# Altium integrated library AD7192BRUZ.IntLib: 1 symbol
Pins are listed as number, name and electrical type; pins without a type are passive.

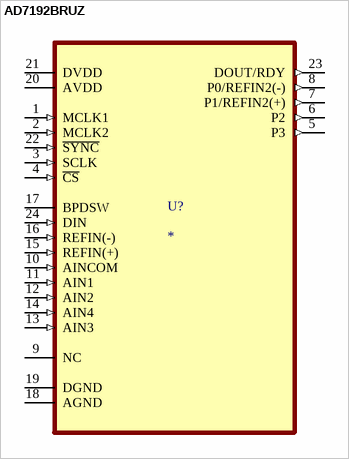
[diagram p0: symbol AD7192BRUZ]

## AD7192BRUZ
designator U?
24 Bit Analog to Digital Converter 2, 4 Input 1 Sigma-Delta 24-TSSOP; MP: AD7192BRUZ; MF: Analog Devices; Package: TSSOP-24 Analog Devices; Check_prices: https://www.snapeda.com/parts/AD7192BRUZ/Analog+Devices+Inc./view-part/?ref=eda; Value: *; Availability: In Stock; SnapEDA_Link: https://www.snapeda.com/parts/AD7192BRUZ/Analog+Devices+Inc./view-part/?ref=snap; Purchase-URL: https://pricing.snapeda.com/search/part/AD7192BRUZ/?ref=eda; Price: None
footprint SOP65P640X120-24N
pins: 1 MCLK1 (in), 2 MCLK2 (in), 3 SCLK (in), 4 ~{CS} (in), 5 P3 (out), 6 P2 (out), 7 P1/REFIN2(+) (out), 8 P0/REFIN2(-) (out), 9 NC, 10 AINCOM (in), 11 AIN1 (in), 12 AIN2 (in), 13 AIN3 (in), 14 AIN4 (in), 15 REFIN(+) (in), 16 REFIN(-) (in), 17 BPDSW, 18 AGND, 19 DGND, 20 AVDD (power), 21 DVDD (power), 22 ~{SYNC} (in), 23 DOUT/RDY (out), 24 DIN (in)